# EAGLE library part LOLIN-D32 (library ytani1)
LOLIN D32 V1.0.0 ESP32 LiPo battery
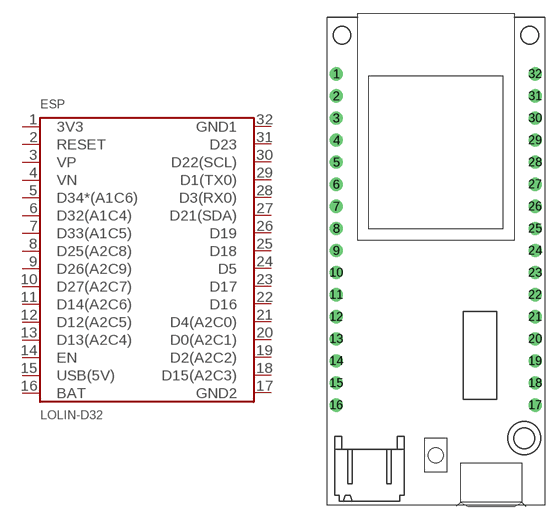
[diagram p0: symbol with the pads of LOLIN-D32; footprint LOLIN-D32]

Designator prefix ESP

## LOLIN-D32  [LOLIN-D32]
1  3V3  pas
2  RESET  pas
3  VP  pas
4  VN  pas
5  D34*(A1C6)  pas
6  D32(A1C4)  pas
7  D33(A1C5)  pas
8  D25(A2C8)  pas
9  D26(A2C9)  pas
10  D27(A2C7)  pas
11  D14(A2C6)  pas
12  D12(A2C5)  pas
13  D13(A2C4)  pas
14  EN  pas
15  USB(5V)  pas
16  BAT  pas
17  GND2  pas
18  D15(A2C3)  pas
19  D2(A2C2)  pas
20  D0(A2C1)  pas
21  D4(A2C0)  pas
22  D16  pas
23  D17  pas
24  D5  pas
25  D18  pas
26  D19  pas
27  D21(SDA)  pas
28  D3(RX0)  pas
29  D1(TX0)  pas
30  D22(SCL)  pas
31  D23  pas
32  GND1  pas

## Footprint LOLIN-D32 (pad centres in mm)
drill 1: 1 -10.16,20.32; 2 -10.16,17.78; 3 -10.16,15.24; 4 -10.16,12.7; 5 -10.16,10.16; 6 -10.16,7.62; 7 -10.16,5.08; 8 -10.16,2.54; 9 -10.16,0; 10 -10.16,-2.54; 11 -10.16,-5.08; 12 -10.16,-7.62; 13 -10.16,-10.16; 14 -10.16,-12.7; 15 -10.16,-15.24; 16 -10.16,-17.78; 17 12.7,-17.78; 18 12.7,-15.24; 19 12.7,-12.7; 20 12.7,-10.16; 21 12.7,-7.62; 22 12.7,-5.08; 23 12.7,-2.54; 24 12.7,0; 25 12.7,2.54; 26 12.7,5.08; 27 12.7,7.62; 28 12.7,10.16; 29 12.7,12.7; 30 12.7,15.24; 31 12.7,17.78; 32 12.7,20.32